# Altium schematic symbol library MAX30100.SchLib: 1 symbol
Pins are listed as number, name and electrical type; pins without a type are passive.

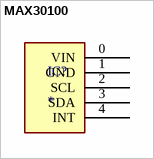
[diagram p0: symbol MAX30100]

## MAX30100
designator IC?
MAX30100-GY
footprint MAX30100
pins: 0 VIN, 1 GND, 2 SCL, 3 SDA, 4 INT